# Altium schematic symbol library 20CTQ150.Schlib: 1 symbol
Pins are listed as number, name and electrical type; pins without a type are passive.

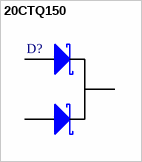
[diagram p0: symbol 20CTQ150]

## 20CTQ150
designator D?
pins: 1 A1, 2 K, 3 A2